# Altium footprint library PCBLibSynthe.PcbLib: 19 footprints (part 1 of 2)
Each footprint in its own frame and in the unit in brackets; x right, y up, seen from the top. Pads: shape width x height; smd on the part's side, far side on the other; paste and mask are expansions set on the pad; w line width, h text height; cw(c..) or ccw(c..) is an arc to the next point about the centre after c.
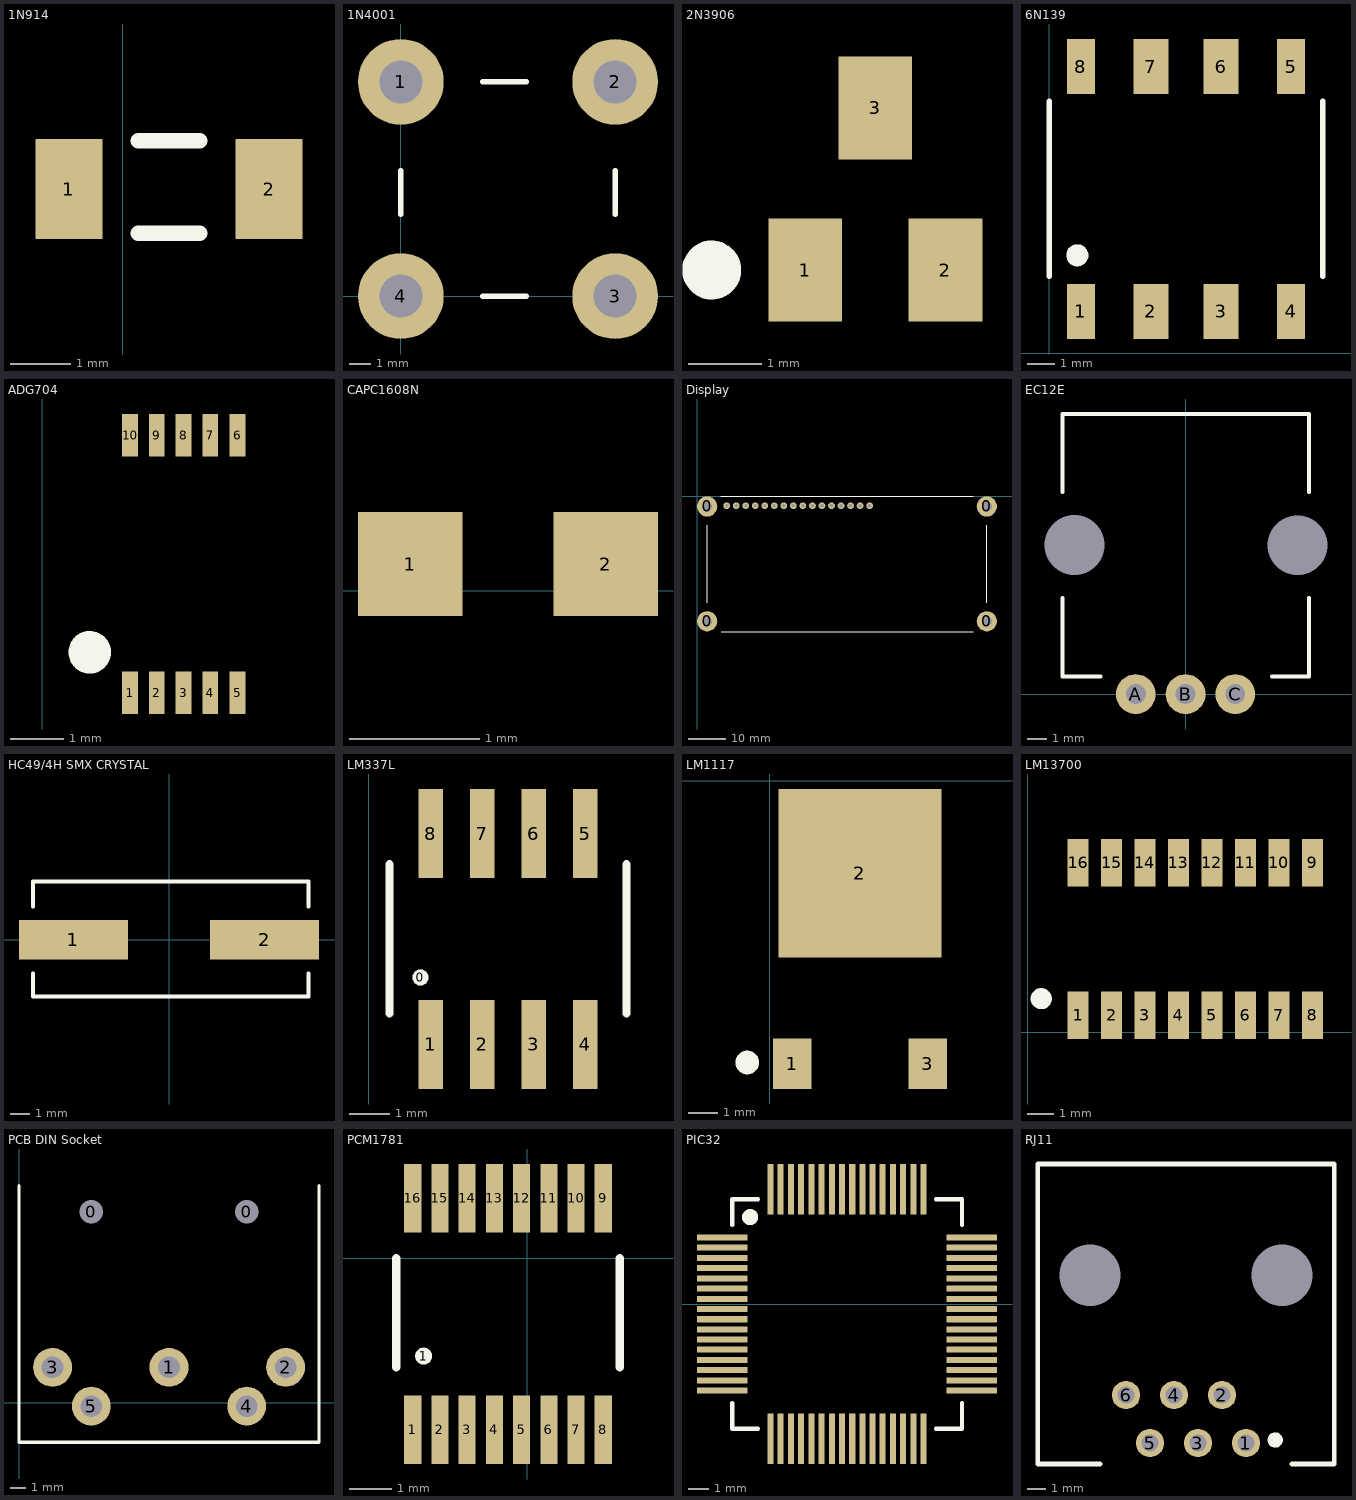
[diagram p0: the footprints below, top view; thin cyan lines are the x and y axes]

## 1N914 [mm] "Diode"
pads (2):
  rect 1.1x1.65 smd: 1(-0.889,3.396) 2(2.411,3.396)
Top Overlay:
  lines w0.254: 0.254,2.667 1.27,2.667 ; 0.254,4.191 1.27,4.191

## 1N4001 [mm] "Diodes Alim"
pads (4):
  round 4 hole 2: 1(0,10) 2(10,10) 3(10,0) 4(0,0)
Top Overlay:
  lines w0.254: 0,3.81 0,5.842 ; 3.81,0 5.842,0 ; 3.81,10 5.842,10 ; 10,3.81 10,5.842

## 2N3906 [mm]
pads (3):
  rect 1x1.4 smd: 1(4.318,3.048) 2(6.218,3.048) 3(5.268,5.248)
Top Overlay:
  circle w0.4: c3.048,3.048 r0.2

## 6N139 [mil] "Optocoupleur"
pads (8):
  rect 40x78.74 smd: 1(45,60) 4(345,60) 5(345,409.13) 8(45,409.13)
  rect 50x78.74 smd: 2(145,60) 3(245,60) 6(245,409.13) 7(145,409.13)
Top Overlay:
  circle w15.75: c40,140 r7.87
  lines w7.87: 0,110 0,360 ; 390,110 390,360

## ADG704 [mm] "Multiplexeur"
pads (10):
  rect 0.3x0.8 smd mask+0.05: 1(1.651,1.651) 2(2.151,1.651) 3(2.659,1.651) 4(3.159,1.651) 5(3.675,1.651) 6(3.675,6.498) 7(3.159,6.498) 8(2.659,6.498) 9(2.151,6.498) 10(1.651,6.498)
Top Overlay:
  circle w0.4: c0.889,2.413 r0.2

## CAPC1608N [mm]
pads (2):
  rect 0.8x0.8 smd: 1(0.838,0.203) 2(2.337,0.203)

## Display [mm]
pads (20):
  round 5.4 hole 2.7: 0(2.674,-33.34) 0(2.674,-2.733) 0(77.223,-33.34) 0(77.223,-2.733)
  round 1.8 hole 1: 1(7.874,-2.54) 2(10.414,-2.54) 3(12.954,-2.54) 4(15.494,-2.54) 5(18.034,-2.54) 6(20.574,-2.54) 7(23.114,-2.54) 8(25.654,-2.54) 9(28.194,-2.54) 10(30.734,-2.54) 11(33.274,-2.54) 12(35.814,-2.54) 13(38.354,-2.54) 14(40.894,-2.54) 15(43.434,-2.54) 16(45.974,-2.54)
Top Overlay:
  lines w0.2: 2.667,-28.448 2.667,-7.747 ; 6.35,0 73.533,0 ; 6.47,-36.129 73.653,-36.129 ; 77.216,-28.448 77.216,-7.747

## EC12E [mm] "Encodeur"
pads (5):
  round 0 hole 3 mask+0: 0(-5.584,7.5) 0(5.628,7.493)
  round 2 hole 1 mask+0: A(-2.5,0) B(0,0) C(2.5,0)
Top Overlay:
  lines w0.2: -6.2,4.826 -6.2,0.889 -4.278,0.889 ; -6.2,10.16 -6.2,14.089 6.2,14.089 6.2,10.16 ; 4.358,0.889 6.2,0.889 6.2,4.826

## HC49/4H SMX CRYSTAL [mm]
height 4.5
pads (2):
  rect 5.5x2 smd: 1(-4.826,0) 2(4.826,0)
Top Overlay:
  lines w0.2: -6.858,-1.7 -6.858,-2.86 7.042,-2.86 7.042,-1.7 ; -6.858,1.67 -6.858,2.94 7.042,2.94 7.042,1.67

## LM337L [mm]
pads (9):
  round 0.4 on Top Overlay: 0(1.27,4.064)
  rect 0.6x2.2 smd mask+0.1: 1(1.524,2.413) 2(2.794,2.413) 3(4.064,2.413) 4(5.334,2.413) 5(5.334,7.613) 6(4.064,7.613) 7(2.794,7.613) 8(1.524,7.613)
Top Overlay:
  lines w0.2: 0.508,3.175 0.508,6.858 ; 6.35,3.175 6.35,6.858

## LM1117 [mm] "Linear regulator"
pads (3):
  rect 1.3x1.7 smd: 1(0.764,-9.57) 3(5.334,-9.57)
  rect 5.5x5.7 smd: 2(3.049,-3.13)
Top Overlay:
  circle w0.4: c-0.762,-9.525 r0.2

## LM13700 [mm]
pads (16):
  rect 0.8x1.8 smd: 1(1.905,0.635) 2(3.175,0.635) 3(4.445,0.635) 4(5.715,0.635) 5(6.985,0.635) 6(8.255,0.635) 7(9.525,0.635) 8(10.795,0.635) 9(10.795,6.435) 10(9.525,6.435) 11(8.255,6.435) 12(6.985,6.435) 13(5.715,6.435) 14(4.445,6.435) 15(3.175,6.435) 16(1.905,6.435)
Top Overlay:
  circle w0.4: c0.508,1.27 r0.2

## PCB DIN Socket [mm] "Midi"
pads (7):
  round 1.4 hole 1.5 mask+0: 0(4.652,12.286) 0(14.652,12.286)
  round 2.5 hole 1.4: 1(9.652,2.286) 2(17.159,2.286) 3(2.159,2.286) 4(14.652,-0.214) 5(4.652,-0.214)
Top Overlay:
  lines w0.2: 0,13.97 0,-2.54 19.304,-2.54 19.304,13.97

## PCM1781 [mm] "DAC"
pads (17):
  rect 0.4x1.6 smd mask+0.05: 1(-2.667,-4.003) 2(-2.032,-4.003) 3(-1.397,-4.003) 4(-0.762,-4.003) 5(-0.127,-4.003) 6(0.508,-4.003) 7(1.143,-4.003) 8(1.778,-4.003) 9(1.778,1.397) 10(1.143,1.397) 11(0.508,1.397) 12(-0.127,1.397) 13(-0.762,1.397) 14(-1.397,1.397) 15(-2.032,1.397) 16(-2.667,1.397)
  round 0.4 on Top Overlay: 1(-2.413,-2.286)
Top Overlay:
  lines w0.2: -3.048,-2.54 -3.048,0 ; 2.159,-2.54 2.159,0

## PIC32 [mm] "PIC32MX575F512H"
pads (64):
  rect 2.5x0.3 smd paste+0 mask+0.05: 1(3.056,3.302) 2(3.056,2.802) 3(3.056,2.294) 4(3.056,1.794) 5(3.056,1.278) 6(3.056,0.778) 7(3.056,0.262) 8(3.056,-0.238) 9(3.056,-0.754) 10(3.056,-1.254) 11(3.056,-1.762) 12(3.056,-2.262) 13(3.056,-2.778) 14(3.056,-3.278) 15(3.056,-3.794) 16(3.056,-4.294) 33(15.456,-4.294) 34(15.456,-3.794) 35(15.456,-3.278) 36(15.456,-2.778) 37(15.456,-2.262) 38(15.456,-1.762) 39(15.456,-1.254) 40(15.456,-0.754) 41(15.456,-0.238) 42(15.456,0.262) 43(15.456,0.778) 44(15.456,1.278) 45(15.456,1.794) 46(15.456,2.294) 47(15.456,2.802) 48(15.456,3.302)
  rect 0.3x2.5 smd paste+0 mask+0.05: 17(5.461,-6.693) 18(5.961,-6.693) 19(6.469,-6.693) 20(6.969,-6.693) 21(7.485,-6.693) 22(7.985,-6.693) 23(8.501,-6.693) 24(9.001,-6.693) 25(9.517,-6.693) 26(10.017,-6.693) 27(10.525,-6.693) 28(11.025,-6.693) 29(11.541,-6.693) 30(12.041,-6.693) 31(12.557,-6.693) 32(13.057,-6.693) 49(13.057,5.707) 50(12.557,5.707) 51(12.041,5.707) 52(11.541,5.707) 53(11.025,5.707) 54(10.525,5.707) 55(10.017,5.707) 56(9.517,5.707) 57(9.001,5.707) 58(8.501,5.707) 59(7.985,5.707) 60(7.485,5.707) 61(6.969,5.707) 62(6.469,5.707) 63(5.961,5.707) 64(5.461,5.707)
Top Overlay:
  circle w0.4: c4.445,4.318 r0.2
  lines w0.2: 3.556,-4.923 3.556,-6.193 4.826,-6.193 ; 3.556,3.937 3.556,5.207 4.826,5.207 ; 13.686,-6.193 14.956,-6.193 14.956,-4.923 ; 13.686,5.207 14.956,5.207 14.956,3.937

## RJ11 [mm] "RJ11 Socket"
pads (8):
  round 0 hole 3.25 mask+0: 0(5.818,13.556) 0(15.978,13.556)
  round 1.5 hole 0.9: 1(14.073,4.666) 2(12.803,7.206) 3(11.533,4.666) 4(10.263,7.206) 5(8.993,4.666) 6(7.723,7.206)
Top Overlay:
  circle w0.4: c15.621,4.826 r0.2
  lines w0.254: 6.35,3.556 3.048,3.556 3.048,19.436 18.748,19.436 18.748,3.556 16.51,3.556